# Altium integrated library Capacitors - Ceramic - 0201.IntLib: 1723 symbols (part 6 of 38)
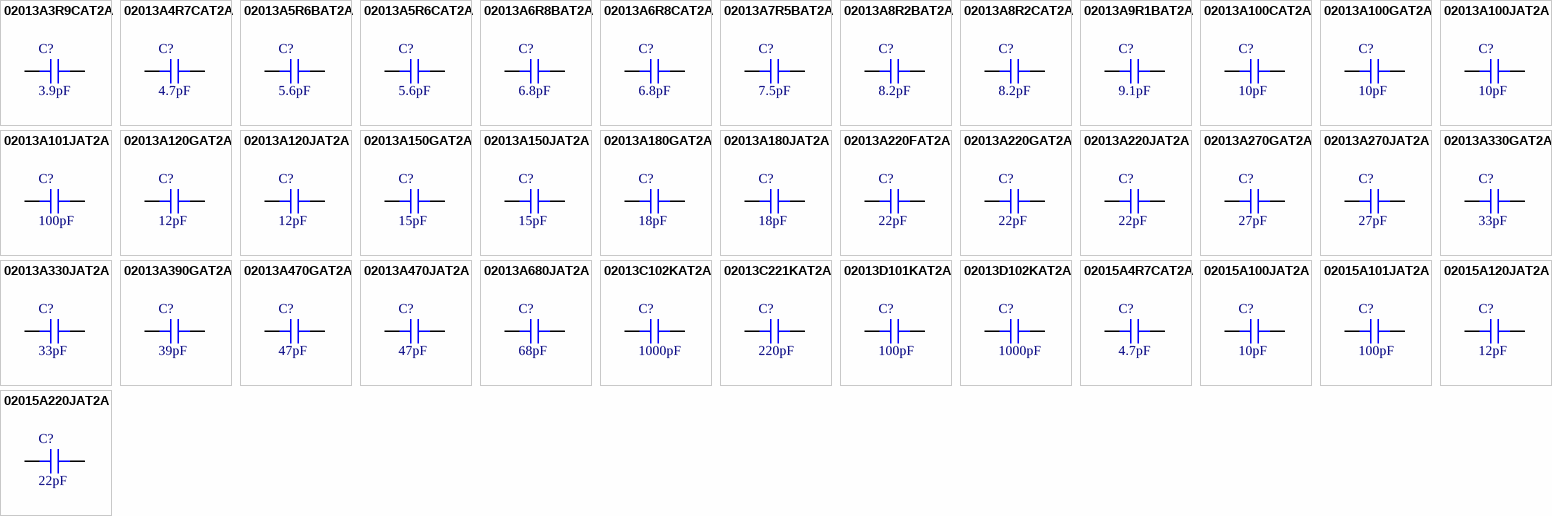
[diagram p48: symbols 02013A3R9CAT2A to 02015A220JAT2A]

## 02013A680JAT2A
designator C?, comment 68pF
CAP CER 68PF 25V C0G/NP0 0201; Part Number: 02013A680JAT2A; Manufacturer: AVX Corporation; Temperature Coefficient: C0G, NP0; Tolerance: ±5%; Value: 68pF; Applications: General Purpose; Capacitance: 68pF; ComponentLink1Description: Datasheet; ComponentLink1URL: http://datasheets.avx.com/C0GNP0-Dielectric.pdf; ComponentLink2Description: DigiKey Link; ComponentLink2URL: http://digikey.com/product-detail/en/avx-corporation/02013A680JAT2A/478-12999-1-ND/9948517; Device Package: 0201 (0603 Metric); LastUpdated: 9/2/2020 12:59:42 AM; Lifecycle Status: Active; Minimum Order: 1; Mounting Type: Surface Mount, MLCC; Operating Temperature: -55°C ~ 125°C; Package / Case: 0201 (0603 Metric); Packaging: TapeAndReel; PartId: 438; Part Status: Active; Price: 0.09; Series: -; Size / Dimension: 0.024" L x 0.012" W (0.60mm x 0.30mm); Supplier 1: DigiKey; Supplier Part Number 1: 478-12999-1-ND; Thickness (Max): 0.013" (0.33mm); Voltage - Rated: 25V
footprint CAP 0201_0603
pins: 1, 2

## 02013C102KAT2A
designator C?, comment 1000pF
CAP CER 1000PF 25V X7R 0201; Part Number: 02013C102KAT2A; Manufacturer: AVX Corporation; Tolerance: ±10%; Value: 1000pF; Applications: General Purpose; Capacitance: 1000pF; ComponentLink1Description: Datasheet; ComponentLink1URL: http://datasheets.avx.com/X7RDielectric.pdf; ComponentLink2Description: DigiKey Link; ComponentLink2URL: http://digikey.com/product-detail/en/avx-corporation/02013C102KAT2A/478-13000-1-ND/9948518; Device Package: 0201 (0603 Metric); LastUpdated: 9/2/2020 12:59:42 AM; Lifecycle Status: Active; Minimum Order: 1; Mounting Type: Surface Mount, MLCC; Operating Temperature: -55°C ~ 125°C; Package / Case: 0201 (0603 Metric); Packaging: TapeAndReel; PartId: 437; Part Status: Active; Price: 0.08; Series: -; Size / Dimension: 0.024" L x 0.012" W (0.60mm x 0.30mm); Supplier 1: DigiKey; Supplier Part Number 1: 478-13000-1-ND; Temperature Coefficient: X7R; Thickness (Max): 0.013" (0.33mm); Voltage - Rated: 25V
footprint CAP 0201_0603
pins: 1, 2

## 02013C221KAT2A
designator C?, comment 220pF
CAP CER 220PF 25V X7R 0201; Part Number: 02013C221KAT2A; Manufacturer: AVX Corporation; Tolerance: ±10%; Value: 220pF; Applications: General Purpose; Capacitance: 220pF; ComponentLink1Description: Datasheet; ComponentLink1URL: http://datasheets.avx.com/X7RDielectric.pdf; ComponentLink2Description: DigiKey Link; ComponentLink2URL: http://digikey.com/product-detail/en/avx-corporation/02013C221KAT2A/478-13001-1-ND/9948519; Device Package: 0201 (0603 Metric); LastUpdated: 9/2/2020 12:57:50 AM; Lifecycle Status: Active; Minimum Order: 1; Mounting Type: Surface Mount, MLCC; Operating Temperature: -55°C ~ 125°C; Package / Case: 0201 (0603 Metric); Packaging: TapeAndReel; PartId: 26146; Part Status: Active; Price: 0.08; Series: -; Supplier 1: DigiKey; Supplier Part Number 1: 478-13001-1-ND; Temperature Coefficient: X7R; Voltage - Rated: 25V
footprint CAP 0201_0603
pins: 1, 2

## 02013D101KAT2A
designator C?, comment 100pF
CAP CER 100PF 25V X5R 0201; Part Number: 02013D101KAT2A; Manufacturer: AVX Corporation; Tolerance: ±10%; Value: 100pF; Applications: General Purpose; Capacitance: 100pF; ComponentLink1Description: Datasheet; ComponentLink1URL: http://datasheets.avx.com/cx5r.pdf; ComponentLink2Description: DigiKey Link; ComponentLink2URL: http://digikey.com/product-detail/en/avx-corporation/02013D101KAT2A/478-10663-1-ND/7536534; Device Package: 0201 (0603 Metric); LastUpdated: 9/2/2020 12:59:59 AM; Lifecycle Status: Active; Minimum Order: 1; Mounting Type: Surface Mount, MLCC; Operating Temperature: -55°C ~ 85°C; Package / Case: 0201 (0603 Metric); Packaging: TapeAndReel; PartId: 238; Part Status: Active; Price: 0.08; Series: -; Size / Dimension: 0.024" L x 0.012" W (0.60mm x 0.30mm); Supplier 1: DigiKey; Supplier Part Number 1: 478-10663-1-ND; Temperature Coefficient: X5R; Thickness (Max): 0.013" (0.33mm); Voltage - Rated: 25V
footprint CAP 0201_0603
pins: 1, 2

## 02013D102KAT2A
designator C?, comment 1000pF
CAP CER 1000PF 25V X5R 0201; Part Number: 02013D102KAT2A; Manufacturer: AVX Corporation; Tolerance: ±10%; Value: 1000pF; Applications: General Purpose; Capacitance: 1000pF; ComponentLink1Description: Datasheet; ComponentLink1URL: http://datasheets.avx.com/cx5r.pdf; ComponentLink2Description: DigiKey Link; ComponentLink2URL: http://digikey.com/product-detail/en/avx-corporation/02013D102KAT2A/478-10770-1-ND/7536316; Device Package: 0201 (0603 Metric); LastUpdated: 9/2/2020 12:58:29 AM; Lifecycle Status: Active; Minimum Order: 1; Mounting Type: Surface Mount, MLCC; Operating Temperature: -55°C ~ 85°C; Package / Case: 0201 (0603 Metric); Packaging: TapeAndReel; PartId: 1286; Part Status: Active; Price: 0.01; Series: -; Size / Dimension: 0.024" L x 0.012" W (0.60mm x 0.30mm); Supplier 1: DigiKey; Supplier Part Number 1: 478-10770-1-ND; Temperature Coefficient: X5R; Thickness (Max): 0.013" (0.33mm); Voltage - Rated: 25V
footprint CAP 0201_0603
pins: 1, 2

## 02015A4R7CAT2A
designator C?, comment 4.7pF
CAP CER 4.7PF 50V C0G/NP0 0201; Part Number: 02015A4R7CAT2A; Manufacturer: AVX Corporation; Temperature Coefficient: C0G, NP0; Tolerance: ±0.25pF; Value: 4.7pF; Applications: General Purpose; Capacitance: 4.7pF; ComponentLink1Description: Datasheet; ComponentLink1URL: http://datasheets.avx.com/C0GNP0-Dielectric.pdf; ComponentLink2Description: DigiKey Link; ComponentLink2URL: http://digikey.com/product-detail/en/avx-corporation/02015A4R7CAT2A/478-11732-1-ND/8573368; Device Package: 0201 (0603 Metric); LastUpdated: 9/2/2020 12:57:50 AM; Lifecycle Status: Active; Minimum Order: 1; Mounting Type: Surface Mount, MLCC; Operating Temperature: -55°C ~ 125°C; Package / Case: 0201 (0603 Metric); Packaging: TapeAndReel; PartId: 26145; Part Status: Active; Price: 0.08; Series: -; Supplier 1: DigiKey; Supplier Part Number 1: 478-11732-1-ND; Voltage - Rated: 50V
footprint CAP 0201_0603
pins: 1, 2

## 02015A100JAT2A
designator C?, comment 10pF
CAP CER 10PF 50V C0G/NP0 0201; Part Number: 02015A100JAT2A; Manufacturer: AVX Corporation; Temperature Coefficient: C0G, NP0; Tolerance: ±5%; Value: 10pF; Applications: General Purpose; Capacitance: 10pF; ComponentLink1Description: Datasheet; ComponentLink1URL: http://datasheets.avx.com/C0GNP0-Dielectric.pdf; ComponentLink2Description: DigiKey Link; ComponentLink2URL: http://digikey.com/product-detail/en/avx-corporation/02015A100JAT2A/478-13003-1-ND/9948521; Device Package: 0201 (0603 Metric); LastUpdated: 9/2/2020 12:59:52 AM; Lifecycle Status: Active; Minimum Order: 1; Mounting Type: Surface Mount, MLCC; Operating Temperature: -55°C ~ 125°C; Package / Case: 0201 (0603 Metric); Packaging: TapeAndReel; PartId: 323; Part Status: Active; Price: 0.01; Series: -; Size / Dimension: 0.024" L x 0.012" W (0.60mm x 0.30mm); Supplier 1: DigiKey; Supplier Part Number 1: 478-13003-1-ND; Thickness (Max): 0.013" (0.33mm); Voltage - Rated: 50V
footprint CAP 0201_0603
pins: 1, 2

## 02015A101JAT2A
designator C?, comment 100pF
CAP CER 100PF 50V C0G/NP0 0201; Part Number: 02015A101JAT2A; Manufacturer: AVX Corporation; Temperature Coefficient: C0G, NP0; Tolerance: ±5%; Value: 100pF; Applications: General Purpose; Capacitance: 100pF; ComponentLink1Description: Datasheet; ComponentLink1URL: http://datasheets.avx.com/C0GNP0-Dielectric.pdf; ComponentLink2Description: DigiKey Link; ComponentLink2URL: http://digikey.com/product-detail/en/avx-corporation/02015A101JAT2A/478-13004-1-ND/9948522; Device Package: 0201 (0603 Metric); LastUpdated: 9/2/2020 12:58:26 AM; Lifecycle Status: Active; Minimum Order: 1; Mounting Type: Surface Mount, MLCC; Operating Temperature: -55°C ~ 125°C; Package / Case: 0201 (0603 Metric); Packaging: TapeAndReel; PartId: 1320; Part Status: Active; Price: 0.09; Series: -; Size / Dimension: 0.024" L x 0.012" W (0.60mm x 0.30mm); Supplier 1: DigiKey; Supplier Part Number 1: 478-13004-1-ND; Thickness (Max): 0.013" (0.33mm); Voltage - Rated: 50V
footprint CAP 0201_0603
pins: 1, 2

## 02015A120JAT2A
designator C?, comment 12pF
CAP CER 12PF 50V C0G/NP0 0201; Part Number: 02015A120JAT2A; Manufacturer: AVX Corporation; Temperature Coefficient: C0G, NP0; Tolerance: ±5%; Value: 12pF; Applications: General Purpose; Capacitance: 12pF; ComponentLink1Description: Datasheet; ComponentLink1URL: http://datasheets.avx.com/C0GNP0-Dielectric.pdf; ComponentLink2Description: DigiKey Link; ComponentLink2URL: http://digikey.com/product-detail/en/avx-corporation/02015A120JAT2A/478-13005-1-ND/9948523; Device Package: 0201 (0603 Metric); LastUpdated: 9/2/2020 12:59:52 AM; Lifecycle Status: Active; Minimum Order: 1; Mounting Type: Surface Mount, MLCC; Operating Temperature: -55°C ~ 125°C; Package / Case: 0201 (0603 Metric); Packaging: TapeAndReel; PartId: 324; Part Status: Active; Price: 0.01; Series: -; Size / Dimension: 0.024" L x 0.012" W (0.60mm x 0.30mm); Supplier 1: DigiKey; Supplier Part Number 1: 478-13005-1-ND; Thickness (Max): 0.013" (0.33mm); Voltage - Rated: 50V
footprint CAP 0201_0603
pins: 1, 2

## 02015A220JAT2A
designator C?, comment 22pF
CAP CER 22PF 50V C0G/NP0 0201; Part Number: 02015A220JAT2A; Manufacturer: AVX Corporation; Temperature Coefficient: C0G, NP0; Tolerance: ±5%; Value: 22pF; Applications: General Purpose; Capacitance: 22pF; ComponentLink1Description: Datasheet; ComponentLink1URL: http://datasheets.avx.com/C0GNP0-Dielectric.pdf; ComponentLink2Description: DigiKey Link; ComponentLink2URL: http://digikey.com/product-detail/en/avx-corporation/02015A220JAT2A/478-13006-1-ND/9948524; Device Package: 0201 (0603 Metric); LastUpdated: 9/2/2020 12:58:28 AM; Lifecycle Status: Active; Minimum Order: 1; Mounting Type: Surface Mount, MLCC; Operating Temperature: -55°C ~ 125°C; Package / Case: 0201 (0603 Metric); Packaging: TapeAndReel; PartId: 1292; Part Status: Active; Price: 0.09; Series: -; Size / Dimension: 0.024" L x 0.012" W (0.60mm x 0.30mm); Supplier 1: DigiKey; Supplier Part Number 1: 478-13006-1-ND; Thickness (Max): 0.013" (0.33mm); Voltage - Rated: 50V
footprint CAP 0201_0603
pins: 1, 2

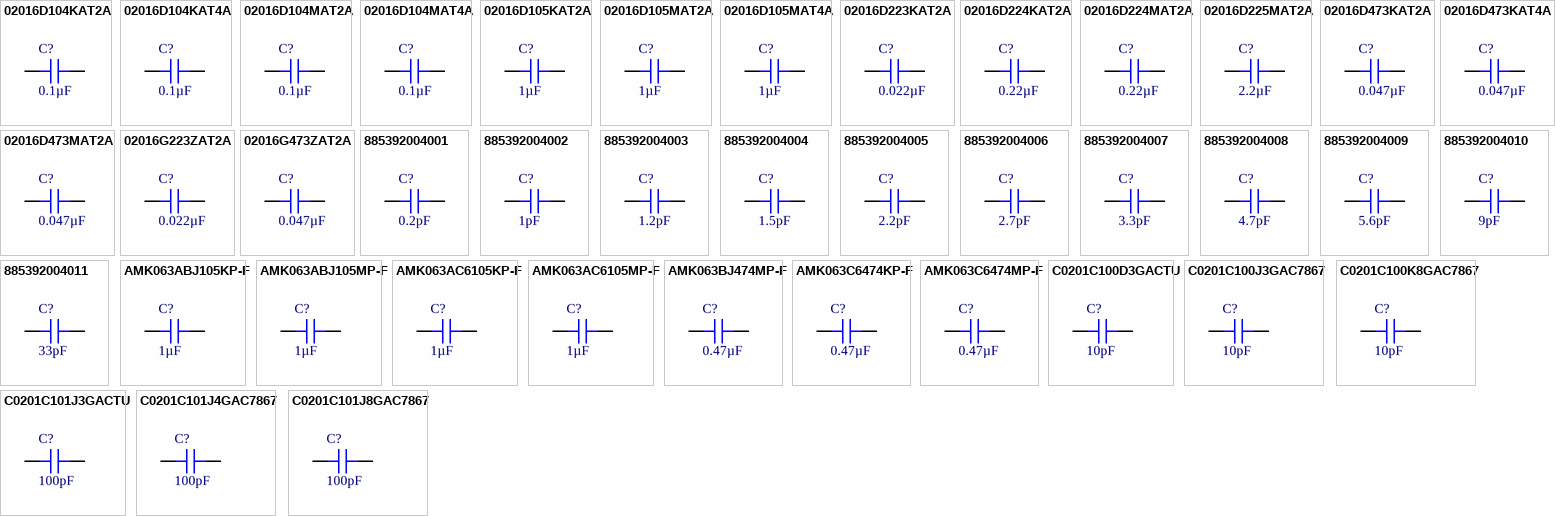
[diagram p6: symbols 02016D104KAT2A to C0201C101J8GAC7867]

## 02016D104KAT2A
designator C?, comment 0.1µF
CAP CER 0.1UF 6.3V X5R 0201; Part Number: 02016D104KAT2A; Manufacturer: AVX Corporation; Tolerance: ±10%; Value: 0.1µF; Applications: General Purpose; Capacitance: 0.1µF; ComponentLink1Description: Datasheet; ComponentLink1URL: http://datasheets.avx.com/cx5r.pdf; ComponentLink2Description: DigiKey Link; ComponentLink2URL: http://digikey.com/product-detail/en/avx-corporation/02016D104KAT2A/478-5266-1-ND/1950933; Device Package: 0201 (0603 Metric); LastUpdated: 9/2/2020 1:00:01 AM; Lifecycle Status: Active; Minimum Order: 1; Mounting Type: Surface Mount, MLCC; Operating Temperature: -55°C ~ 85°C; Package / Case: 0201 (0603 Metric); Packaging: CutTape; PartId: 214; Part Status: Active; Price: 0.10; Series: -; Size / Dimension: 0.024" L x 0.012" W (0.60mm x 0.30mm); Supplier 1: DigiKey; Supplier Part Number 1: 478-5266-1-ND; Temperature Coefficient: X5R; Thickness (Max): 0.013" (0.33mm); Voltage - Rated: 6.3V
footprint CAP 0201_0603
pins: 1, 2

## 02016D104KAT4A
designator C?, comment 0.1µF
CAP CER 0.1UF 6.3V X5R 0201; Part Number: 02016D104KAT4A; Manufacturer: AVX Corporation; Tolerance: ±10%; Value: 0.1µF; Applications: General Purpose; Capacitance: 0.1µF; ComponentLink1Description: Datasheet; ComponentLink1URL: http://datasheets.avx.com/cx5r.pdf; ComponentLink2Description: DigiKey Link; ComponentLink2URL: http://digikey.com/product-detail/en/avx-corporation/02016D104KAT4A/478-12444-1-ND/9749296; Device Package: 0201 (0603 Metric); LastUpdated: 9/2/2020 12:59:51 AM; Lifecycle Status: Active; Minimum Order: 1; Mounting Type: Surface Mount, MLCC; Operating Temperature: -55°C ~ 85°C; Package / Case: 0201 (0603 Metric); Packaging: CutTape; PartId: 325; Part Status: Active; Price: 0.10; Series: -; Size / Dimension: 0.024" L x 0.012" W (0.60mm x 0.30mm); Supplier 1: DigiKey; Supplier Part Number 1: 478-12444-1-ND; Temperature Coefficient: X5R; Thickness (Max): 0.013" (0.33mm); Voltage - Rated: 6.3V
footprint CAP 0201_0603
pins: 1, 2

## 02016D104MAT2A
designator C?, comment 0.1µF
CAP CER 0.1UF 6.3V X5R 0201; Part Number: 02016D104MAT2A; Manufacturer: AVX Corporation; Tolerance: ±20%; Value: 0.1µF; Applications: General Purpose; Capacitance: 0.1µF; ComponentLink1Description: Datasheet; ComponentLink1URL: http://datasheets.avx.com/cx5r.pdf; ComponentLink2Description: DigiKey Link; ComponentLink2URL: http://digikey.com/product-detail/en/avx-corporation/02016D104MAT2A/478-8049-1-ND/3900665; Device Package: 0201 (0603 Metric); LastUpdated: 9/2/2020 12:58:50 AM; Lifecycle Status: Active; Minimum Order: 1; Mounting Type: Surface Mount, MLCC; Operating Temperature: -55°C ~ 85°C; Package / Case: 0201 (0603 Metric); Packaging: TapeAndReel; PartId: 1044; Part Status: Active; Price: 0.01; Series: -; Size / Dimension: 0.024" L x 0.012" W (0.60mm x 0.30mm); Supplier 1: DigiKey; Supplier Part Number 1: 478-8049-1-ND; Temperature Coefficient: X5R; Thickness (Max): 0.013" (0.33mm); Voltage - Rated: 6.3V
footprint CAP 0201_0603
pins: 1, 2

## 02016D104MAT4A
designator C?, comment 0.1µF
CAP CER 0.1UF 6.3V X5R 0201; Part Number: 02016D104MAT4A; Manufacturer: AVX Corporation; Tolerance: ±20%; Value: 0.1µF; Applications: General Purpose; Capacitance: 0.1µF; ComponentLink1Description: Datasheet; ComponentLink1URL: http://datasheets.avx.com/cx5r.pdf; ComponentLink2Description: DigiKey Link; ComponentLink2URL: http://digikey.com/product-detail/en/avx-corporation/02016D104MAT4A/478-12445-1-ND/9749297; Device Package: 0201 (0603 Metric); LastUpdated: 9/2/2020 1:00:09 AM; Lifecycle Status: Active; Minimum Order: 1; Mounting Type: Surface Mount, MLCC; Operating Temperature: -55°C ~ 85°C; Package / Case: 0201 (0603 Metric); Packaging: TapeAndReel; PartId: 119; Part Status: Active; Price: 0.01; Series: -; Size / Dimension: 0.024" L x 0.012" W (0.60mm x 0.30mm); Supplier 1: DigiKey; Supplier Part Number 1: 478-12445-1-ND; Temperature Coefficient: X5R; Thickness (Max): 0.013" (0.33mm); Voltage - Rated: 6.3V
footprint CAP 0201_0603
pins: 1, 2

## 02016D105KAT2A
designator C?, comment 1µF
CAP CER 1UF 6.3V X5R 0201; Part Number: 02016D105KAT2A; Manufacturer: AVX Corporation; Tolerance: ±10%; Value: 1µF; Applications: General Purpose; Capacitance: 1µF; ComponentLink1Description: Datasheet; ComponentLink1URL: http://datasheets.avx.com/cx5r.pdf; ComponentLink2Description: DigiKey Link; ComponentLink2URL: http://digikey.com/product-detail/en/avx-corporation/02016D105KAT2A/478-10772-1-ND/7536447; Device Package: 0201 (0603 Metric); LastUpdated: 9/2/2020 12:58:45 AM; Lifecycle Status: Active; Minimum Order: 1; Mounting Type: Surface Mount, MLCC; Operating Temperature: -55°C ~ 85°C; Package / Case: 0201 (0603 Metric); Packaging: TapeAndReel; PartId: 1100; Part Status: Active; Price: 0.05; Series: -; Size / Dimension: 0.024" L x 0.012" W (0.60mm x 0.30mm); Supplier 1: DigiKey; Supplier Part Number 1: 478-10772-1-ND; Temperature Coefficient: X5R; Thickness (Max): 0.016" (0.40mm); Voltage - Rated: 6.3V
footprint CAP 0201_0603
pins: 1, 2

## 02016D105MAT2A
designator C?, comment 1µF
CAP CER 1UF 6.3V X5R 0201; Part Number: 02016D105MAT2A; Manufacturer: AVX Corporation; Tolerance: ±20%; Value: 1µF; Applications: General Purpose; Capacitance: 1µF; ComponentLink1Description: Datasheet; ComponentLink1URL: http://datasheets.avx.com/cx5r.pdf; ComponentLink2Description: DigiKey Link; ComponentLink2URL: http://digikey.com/product-detail/en/avx-corporation/02016D105MAT2A/478-7862-1-ND/3881485; Device Package: 0201 (0603 Metric); LastUpdated: 9/2/2020 12:57:58 AM; Lifecycle Status: Active; Minimum Order: 1; Mounting Type: Surface Mount, MLCC; Operating Temperature: -55°C ~ 85°C; Package / Case: 0201 (0603 Metric); Packaging: TapeAndReel; PartId: 1629; Part Status: Active; Price: 0.04; Series: -; Size / Dimension: 0.024" L x 0.012" W (0.60mm x 0.30mm); Supplier 1: DigiKey; Supplier Part Number 1: 478-7862-1-ND; Temperature Coefficient: X5R; Thickness (Max): 0.013" (0.33mm); Voltage - Rated: 6.3V
footprint CAP 0201_0603
pins: 1, 2

## 02016D105MAT4A
designator C?, comment 1µF
CAP CER 1UF 6.3V X5R 0201 13"; Part Number: 02016D105MAT4A; Manufacturer: AVX Corporation; Tolerance: ±20%; Value: 1µF; Applications: General Purpose; Capacitance: 1µF; ComponentLink1Description: Datasheet; ComponentLink1URL: http://datasheets.avx.com/cx5r.pdf; ComponentLink2Description: DigiKey Link; ComponentLink2URL: http://digikey.com/product-detail/en/avx-corporation/02016D105MAT4A/478-12192-1-ND/9521998; Device Package: 0201 (0603 Metric); LastUpdated: 9/2/2020 12:58:29 AM; Lifecycle Status: Active; Minimum Order: 1; Mounting Type: Surface Mount, MLCC; Operating Temperature: -55°C ~ 85°C; Package / Case: 0201 (0603 Metric); Packaging: TapeAndReel; PartId: 1284; Part Status: Active; Price: 0.04; Series: -; Size / Dimension: 0.024" L x 0.012" W (0.60mm x 0.30mm); Supplier 1: DigiKey; Supplier Part Number 1: 478-12192-1-ND; Temperature Coefficient: X5R; Thickness (Max): 0.016" (0.40mm); Voltage - Rated: 6.3V
footprint CAP 0201_0603
pins: 1, 2

## 02016D223KAT2A
designator C?, comment 0.022µF
CAP CER 0.022UF 6.3V X5R 0201; Part Number: 02016D223KAT2A; Manufacturer: AVX Corporation; Tolerance: ±10%; Value: 0.022µF; Applications: General Purpose; Capacitance: 0.022µF; ComponentLink1Description: Datasheet; ComponentLink1URL: http://datasheets.avx.com/cx5r.pdf; ComponentLink2Description: DigiKey Link; ComponentLink2URL: http://digikey.com/product-detail/en/avx-corporation/02016D223KAT2A/478-10773-1-ND/7536317; Device Package: 0201 (0603 Metric); LastUpdated: 9/2/2020 12:57:54 AM; Lifecycle Status: Active; Minimum Order: 1; Mounting Type: Surface Mount, MLCC; Operating Temperature: -55°C ~ 85°C; Package / Case: 0201 (0603 Metric); Packaging: TapeAndReel; PartId: 1674; Part Status: Active; Price: 0.01; Series: -; Size / Dimension: 0.024" L x 0.012" W (0.60mm x 0.30mm); Supplier 1: DigiKey; Supplier Part Number 1: 478-10773-1-ND; Temperature Coefficient: X5R; Thickness (Max): 0.013" (0.33mm); Voltage - Rated: 6.3V
footprint CAP 0201_0603
pins: 1, 2

## 02016D224KAT2A
designator C?, comment 0.22µF
CAP CER 0.22UF 6.3V X5R 0201; Part Number: 02016D224KAT2A; Manufacturer: AVX Corporation; Tolerance: ±10%; Value: 0.22µF; Applications: General Purpose; Capacitance: 0.22µF; ComponentLink1Description: Datasheet; ComponentLink1URL: http://datasheets.avx.com/cx5r.pdf; ComponentLink2Description: DigiKey Link; ComponentLink2URL: http://digikey.com/product-detail/en/avx-corporation/02016D224KAT2A/478-12499-1-ND/9749552; Device Package: 0201 (0603 Metric); LastUpdated: 9/2/2020 12:58:43 AM; Lifecycle Status: Active; Minimum Order: 1; Mounting Type: Surface Mount, MLCC; Operating Temperature: -55°C ~ 85°C; Package / Case: 0201 (0603 Metric); Packaging: CutTape; PartId: 1129; Part Status: Active; Price: 0.10; Series: -; Size / Dimension: 0.024" L x 0.012" W (0.60mm x 0.30mm); Supplier 1: DigiKey; Supplier Part Number 1: 478-12499-1-ND; Temperature Coefficient: X5R; Thickness (Max): 0.013" (0.33mm); Voltage - Rated: 6.3V
footprint CAP 0201_0603
pins: 1, 2

## 02016D224MAT2A
designator C?, comment 0.22µF
CAP CER 0.22UF 6.3V X5R 0201; Part Number: 02016D224MAT2A; Manufacturer: AVX Corporation; Tolerance: ±20%; Value: 0.22µF; Applications: General Purpose; Capacitance: 0.22µF; ComponentLink1Description: Datasheet; ComponentLink1URL: http://datasheets.avx.com/cx5r.pdf; ComponentLink2Description: DigiKey Link; ComponentLink2URL: http://digikey.com/product-detail/en/avx-corporation/02016D224MAT2A/478-12500-1-ND/9749553; Device Package: 0201 (0603 Metric); LastUpdated: 9/2/2020 12:58:43 AM; Lifecycle Status: Active; Minimum Order: 1; Mounting Type: Surface Mount, MLCC; Operating Temperature: -55°C ~ 85°C; Package / Case: 0201 (0603 Metric); Packaging: TapeAndReel; PartId: 1130; Part Status: Active; Price: 0.01; Series: -; Size / Dimension: 0.024" L x 0.012" W (0.60mm x 0.30mm); Supplier 1: DigiKey; Supplier Part Number 1: 478-12500-1-ND; Temperature Coefficient: X5R; Thickness (Max): 0.013" (0.33mm); Voltage - Rated: 6.3V
footprint CAP 0201_0603
pins: 1, 2

## 02016D225MAT2A
designator C?, comment 2.2µF
CAP CER 2.2UF 6.3V X5R 0201; Part Number: 02016D225MAT2A; Manufacturer: AVX Corporation; Tolerance: ±20%; Value: 2.2µF; Applications: General Purpose; Capacitance: 2.2µF; ComponentLink1Description: Datasheet; ComponentLink1URL: http://datasheets.avx.com/cx5r.pdf; ComponentLink2Description: DigiKey Link; ComponentLink2URL: http://digikey.com/product-detail/en/avx-corporation/02016D225MAT2A/478-10042-1-ND/6564265; Device Package: 0201 (0603 Metric); LastUpdated: 9/2/2020 12:58:24 AM; Lifecycle Status: Active; Minimum Order: 1; Mounting Type: Surface Mount, MLCC; Operating Temperature: -55°C ~ 85°C; Package / Case: 0201 (0603 Metric); Packaging: TapeAndReel; PartId: 1342; Part Status: Active; Price: 0.14; Series: -; Size / Dimension: 0.024" L x 0.012" W (0.60mm x 0.30mm); Supplier 1: DigiKey; Supplier Part Number 1: 478-10042-1-ND; Temperature Coefficient: X5R; Thickness (Max): 0.016" (0.40mm); Voltage - Rated: 6.3V
footprint CAP 0201_0603
pins: 1, 2

## 02016D473KAT2A
designator C?, comment 0.047µF
CAP CER 0.047UF 6.3V X5R 0201; Part Number: 02016D473KAT2A; Manufacturer: AVX Corporation; Tolerance: ±10%; Value: 0.047µF; Applications: General Purpose; Capacitance: 0.047µF; ComponentLink1Description: Datasheet; ComponentLink1URL: http://datasheets.avx.com/cx5r.pdf; ComponentLink2Description: DigiKey Link; ComponentLink2URL: http://digikey.com/product-detail/en/avx-corporation/02016D473KAT2A/478-10774-1-ND/7536318; Device Package: 0201 (0603 Metric); LastUpdated: 9/2/2020 12:58:29 AM; Lifecycle Status: Active; Minimum Order: 1; Mounting Type: Surface Mount, MLCC; Operating Temperature: -55°C ~ 85°C; Package / Case: 0201 (0603 Metric); Packaging: TapeAndReel; PartId: 1287; Part Status: Active; Price: 0.01; Series: -; Size / Dimension: 0.024" L x 0.012" W (0.60mm x 0.30mm); Supplier 1: DigiKey; Supplier Part Number 1: 478-10774-1-ND; Temperature Coefficient: X5R; Thickness (Max): 0.013" (0.33mm); Voltage - Rated: 6.3V
footprint CAP 0201_0603
pins: 1, 2

## 02016D473KAT4A
designator C?, comment 0.047µF
CAP CER 0.047UF 6.3V X5R 0201; Part Number: 02016D473KAT4A; Manufacturer: AVX Corporation; Tolerance: ±10%; Value: 0.047µF; Applications: General Purpose; Capacitance: 0.047µF; ComponentLink1Description: Datasheet; ComponentLink1URL: http://datasheets.avx.com/cx5r.pdf; ComponentLink2Description: DigiKey Link; ComponentLink2URL: http://digikey.com/product-detail/en/avx-corporation/02016D473KAT4A/478-12447-1-ND/9749299; Device Package: 0201 (0603 Metric); LastUpdated: 9/2/2020 12:58:43 AM; Lifecycle Status: Active; Minimum Order: 1; Mounting Type: Surface Mount, MLCC; Operating Temperature: -55°C ~ 85°C; Package / Case: 0201 (0603 Metric); Packaging: TapeAndReel; PartId: 1131; Part Status: Active; Price: 0.01; Series: -; Size / Dimension: 0.024" L x 0.012" W (0.60mm x 0.30mm); Supplier 1: DigiKey; Supplier Part Number 1: 478-12447-1-ND; Temperature Coefficient: X5R; Thickness (Max): 0.013" (0.33mm); Voltage - Rated: 6.3V
footprint CAP 0201_0603
pins: 1, 2

## 02016D473MAT2A
designator C?, comment 0.047µF
CAP CER 0.047UF 6.3V X5R 0201; Part Number: 02016D473MAT2A; Manufacturer: AVX Corporation; Tolerance: ±20%; Value: 0.047µF; Applications: General Purpose; Capacitance: 0.047µF; ComponentLink1Description: Datasheet; ComponentLink1URL: http://datasheets.avx.com/cx5r.pdf; ComponentLink2Description: DigiKey Link; ComponentLink2URL: http://digikey.com/product-detail/en/avx-corporation/02016D473MAT2A/478-12501-1-ND/9749554; Device Package: 0201 (0603 Metric); LastUpdated: 9/2/2020 12:58:41 AM; Lifecycle Status: Active; Minimum Order: 1; Mounting Type: Surface Mount, MLCC; Operating Temperature: -55°C ~ 85°C; Package / Case: 0201 (0603 Metric); Packaging: TapeAndReel; PartId: 1146; Part Status: Active; Price: 0.01; Series: -; Size / Dimension: 0.024" L x 0.012" W (0.60mm x 0.30mm); Supplier 1: DigiKey; Supplier Part Number 1: 478-12501-1-ND; Temperature Coefficient: X5R; Thickness (Max): 0.013" (0.33mm); Voltage - Rated: 6.3V
footprint CAP 0201_0603
pins: 1, 2

## 02016G223ZAT2A
designator C?, comment 0.022µF
CAP CER 0.022UF 6.3V Y5V 0201; Part Number: 02016G223ZAT2A; Manufacturer: AVX Corporation; Temperature Coefficient: Y5V (F); Tolerance: -20%, +80%; Value: 0.022µF; Applications: General Purpose; Capacitance: 0.022µF; ComponentLink1Description: Datasheet; ComponentLink1URL: http://datasheets.avx.com/Y5V.pdf; ComponentLink2Description: DigiKey Link; ComponentLink2URL: http://digikey.com/product-detail/en/avx-corporation/02016G223ZAT2A/478-1054-1-ND/564086; Device Package: 0201 (0603 Metric); LastUpdated: 9/2/2020 12:58:01 AM; Lifecycle Status: Active; Minimum Order: 1; Mounting Type: Surface Mount, MLCC; Operating Temperature: -30°C ~ 85°C; Package / Case: 0201 (0603 Metric); Packaging: TapeAndReel; PartId: 1591; Part Status: Active; Price: 0.10; Series: -; Size / Dimension: 0.024" L x 0.012" W (0.60mm x 0.30mm); Supplier 1: DigiKey; Supplier Part Number 1: 478-1054-1-ND; Thickness (Max): 0.013" (0.33mm); Voltage - Rated: 6.3V
footprint CAP 0201_0603
pins: 1, 2

## 02016G473ZAT2A
designator C?, comment 0.047µF
CAP CER 0.047UF 6.3V Y5V 0201; Part Number: 02016G473ZAT2A; Manufacturer: AVX Corporation; Temperature Coefficient: Y5V (F); Tolerance: -20%, +80%; Value: 0.047µF; Applications: General Purpose; Capacitance: 0.047µF; ComponentLink1Description: Datasheet; ComponentLink1URL: http://datasheets.avx.com/Y5V.pdf; ComponentLink2Description: DigiKey Link; ComponentLink2URL: http://digikey.com/product-detail/en/avx-corporation/02016G473ZAT2A/478-1056-1-ND/564088; Device Package: 0201 (0603 Metric); LastUpdated: 9/2/2020 1:00:16 AM; Lifecycle Status: Active; Minimum Order: 1; Mounting Type: Surface Mount, MLCC; Operating Temperature: -30°C ~ 85°C; Package / Case: 0201 (0603 Metric); Packaging: TapeAndReel; PartId: 32; Part Status: Active; Price: 0.01; Series: -; Size / Dimension: 0.024" L x 0.012" W (0.60mm x 0.30mm); Supplier 1: DigiKey; Supplier Part Number 1: 478-1056-1-ND; Thickness (Max): 0.013" (0.33mm); Voltage - Rated: 6.3V
footprint CAP 0201_0603
pins: 1, 2

## 885392004001
designator C?, comment 0.2pF
CAP CER 0.2PF 25V C0G/NP0 0201; Part Number: 885392004001; Manufacturer: Würth Elektronik; Temperature Coefficient: C0G, NP0; Tolerance: ±0.05pF; Value: 0.2pF; Applications: RF, Microwave, High Frequency; Capacitance: 0.2pF; ComponentLink2Description: DigiKey Link; ComponentLink2URL: http://digikey.com/product-detail/en/w-rth-elektronik/885392004001/732-13215-1-ND/9816426; Device Package: 0201 (0603 Metric); LastUpdated: 9/2/2020 12:57:51 AM; Lifecycle Status: Active; Minimum Order: 1; Mounting Type: Surface Mount, MLCC; Operating Temperature: -55°C ~ 125°C; Package / Case: 0201 (0603 Metric); Packaging: TapeAndReel; PartId: 26147; Part Status: Active; Price: 0.08; Series: WCAP-CSRF; Supplier 1: DigiKey; Supplier Part Number 1: 732-13215-1-ND; Voltage - Rated: 25V
footprint CAP 0201_0603
pins: 1, 2

## 885392004002
designator C?, comment 1pF
CAP CER 1PF 25V C0G/NP0 0201; Part Number: 885392004002; Manufacturer: Würth Elektronik; Temperature Coefficient: C0G, NP0; Tolerance: ±0.1pF; Value: 1pF; Applications: RF, Microwave, High Frequency; Capacitance: 1pF; ComponentLink2Description: DigiKey Link; ComponentLink2URL: http://digikey.com/product-detail/en/w-rth-elektronik/885392004002/732-13216-1-ND/9816427; Device Package: 0201 (0603 Metric); LastUpdated: 9/2/2020 1:00:10 AM; Lifecycle Status: Active; Minimum Order: 1; Mounting Type: Surface Mount, MLCC; Operating Temperature: -55°C ~ 125°C; Package / Case: 0201 (0603 Metric); Packaging: TapeAndReel; PartId: 112; Part Status: Active; Price: 0.03; Series: WCAP-CSRF; Size / Dimension: 0.024" L x 0.012" W (0.60mm x 0.30mm); Supplier 1: DigiKey; Supplier Part Number 1: 732-13216-1-ND; Thickness (Max): 0.013" (0.33mm); Voltage - Rated: 25V
footprint CAP 0201_0603
pins: 1, 2

## 885392004003
designator C?, comment 1.2pF
CAP CER 1.2PF 25V C0G/NP0 0201; Part Number: 885392004003; Manufacturer: Würth Elektronik; Temperature Coefficient: C0G, NP0; Tolerance: ±0.1pF; Value: 1.2pF; Applications: RF, Microwave, High Frequency; Capacitance: 1.2pF; ComponentLink2Description: DigiKey Link; ComponentLink2URL: http://digikey.com/product-detail/en/w-rth-elektronik/885392004003/732-13217-1-ND/9816428; Device Package: 0201 (0603 Metric); LastUpdated: 9/2/2020 1:00:10 AM; Lifecycle Status: Active; Minimum Order: 1; Mounting Type: Surface Mount, MLCC; Operating Temperature: -55°C ~ 125°C; Package / Case: 0201 (0603 Metric); Packaging: TapeAndReel; PartId: 111; Part Status: Active; Price: 0.03; Series: WCAP-CSRF; Size / Dimension: 0.024" L x 0.012" W (0.60mm x 0.30mm); Supplier 1: DigiKey; Supplier Part Number 1: 732-13217-1-ND; Thickness (Max): 0.013" (0.33mm); Voltage - Rated: 25V
footprint CAP 0201_0603
pins: 1, 2

## 885392004004
designator C?, comment 1.5pF
CAP CER 1.5PF 25V C0G/NP0 0201; Part Number: 885392004004; Manufacturer: Würth Elektronik; Temperature Coefficient: C0G, NP0; Tolerance: ±0.1pF; Value: 1.5pF; Applications: RF, Microwave, High Frequency; Capacitance: 1.5pF; ComponentLink2Description: DigiKey Link; ComponentLink2URL: http://digikey.com/product-detail/en/w-rth-elektronik/885392004004/732-13218-1-ND/9816429; Device Package: 0201 (0603 Metric); LastUpdated: 9/2/2020 1:00:10 AM; Lifecycle Status: Active; Minimum Order: 1; Mounting Type: Surface Mount, MLCC; Operating Temperature: -55°C ~ 125°C; Package / Case: 0201 (0603 Metric); Packaging: TapeAndReel; PartId: 113; Part Status: Active; Price: 0.03; Series: WCAP-CSRF; Size / Dimension: 0.024" L x 0.012" W (0.60mm x 0.30mm); Supplier 1: DigiKey; Supplier Part Number 1: 732-13218-1-ND; Thickness (Max): 0.013" (0.33mm); Voltage - Rated: 25V
footprint CAP 0201_0603
pins: 1, 2

## 885392004005
designator C?, comment 2.2pF
CAP CER 2.2PF 25V C0G/NP0 0201; Part Number: 885392004005; Manufacturer: Würth Elektronik; Temperature Coefficient: C0G, NP0; Tolerance: ±0.1pF; Value: 2.2pF; Applications: RF, Microwave, High Frequency; Capacitance: 2.2pF; ComponentLink2Description: DigiKey Link; ComponentLink2URL: http://digikey.com/product-detail/en/w-rth-elektronik/885392004005/732-13219-1-ND/9816430; Device Package: 0201 (0603 Metric); LastUpdated: 9/2/2020 1:00:10 AM; Lifecycle Status: Active; Minimum Order: 1; Mounting Type: Surface Mount, MLCC; Operating Temperature: -55°C ~ 125°C; Package / Case: 0201 (0603 Metric); Packaging: TapeAndReel; PartId: 114; Part Status: Active; Price: 0.03; Series: WCAP-CSRF; Size / Dimension: 0.024" L x 0.012" W (0.60mm x 0.30mm); Supplier 1: DigiKey; Supplier Part Number 1: 732-13219-1-ND; Thickness (Max): 0.013" (0.33mm); Voltage - Rated: 25V
footprint CAP 0201_0603
pins: 1, 2

## 885392004006
designator C?, comment 2.7pF
CAP CER 2.7PF 25V C0G/NP0 0201; Part Number: 885392004006; Manufacturer: Würth Elektronik; Temperature Coefficient: C0G, NP0; Tolerance: ±0.1pF; Value: 2.7pF; Applications: RF, Microwave, High Frequency; Capacitance: 2.7pF; ComponentLink2Description: DigiKey Link; ComponentLink2URL: http://digikey.com/product-detail/en/w-rth-elektronik/885392004006/732-13220-1-ND/9816431; Device Package: 0201 (0603 Metric); LastUpdated: 9/2/2020 1:00:10 AM; Lifecycle Status: Active; Minimum Order: 1; Mounting Type: Surface Mount, MLCC; Operating Temperature: -55°C ~ 125°C; Package / Case: 0201 (0603 Metric); Packaging: TapeAndReel; PartId: 115; Part Status: Active; Price: 0.03; Series: WCAP-CSRF; Size / Dimension: 0.024" L x 0.012" W (0.60mm x 0.30mm); Supplier 1: DigiKey; Supplier Part Number 1: 732-13220-1-ND; Thickness (Max): 0.013" (0.33mm); Voltage - Rated: 25V
footprint CAP 0201_0603
pins: 1, 2

## 885392004007
designator C?, comment 3.3pF
CAP CER 3.3PF 25V C0G/NP0 0201; Part Number: 885392004007; Manufacturer: Würth Elektronik; Temperature Coefficient: C0G, NP0; Tolerance: ±0.1pF; Value: 3.3pF; Applications: RF, Microwave, High Frequency; Capacitance: 3.3pF; ComponentLink2Description: DigiKey Link; ComponentLink2URL: http://digikey.com/product-detail/en/w-rth-elektronik/885392004007/732-13221-1-ND/9816432; Device Package: 0201 (0603 Metric); LastUpdated: 9/2/2020 1:00:10 AM; Lifecycle Status: Active; Minimum Order: 1; Mounting Type: Surface Mount, MLCC; Operating Temperature: -55°C ~ 125°C; Package / Case: 0201 (0603 Metric); Packaging: TapeAndReel; PartId: 116; Part Status: Active; Price: 0.03; Series: WCAP-CSRF; Size / Dimension: 0.024" L x 0.012" W (0.60mm x 0.30mm); Supplier 1: DigiKey; Supplier Part Number 1: 732-13221-1-ND; Thickness (Max): 0.013" (0.33mm); Voltage - Rated: 25V
footprint CAP 0201_0603
pins: 1, 2

## 885392004008
designator C?, comment 4.7pF
CAP CER 4.7PF 25V C0G/NP0 0201; Part Number: 885392004008; Manufacturer: Würth Elektronik; Temperature Coefficient: C0G, NP0; Tolerance: ±0.25pF; Value: 4.7pF; Applications: RF, Microwave, High Frequency; Capacitance: 4.7pF; ComponentLink2Description: DigiKey Link; ComponentLink2URL: http://digikey.com/product-detail/en/w-rth-elektronik/885392004008/732-13222-1-ND/9816433; Device Package: 0201 (0603 Metric); LastUpdated: 9/2/2020 1:00:10 AM; Lifecycle Status: Active; Minimum Order: 1; Mounting Type: Surface Mount, MLCC; Operating Temperature: -55°C ~ 125°C; Package / Case: 0201 (0603 Metric); Packaging: TapeAndReel; PartId: 107; Part Status: Active; Price: 0.02; Series: WCAP-CSRF; Size / Dimension: 0.024" L x 0.012" W (0.60mm x 0.30mm); Supplier 1: DigiKey; Supplier Part Number 1: 732-13222-1-ND; Thickness (Max): 0.013" (0.33mm); Voltage - Rated: 25V
footprint CAP 0201_0603
pins: 1, 2

## 885392004009
designator C?, comment 5.6pF
CAP CER 5.6PF 25V C0G/NP0 0201; Part Number: 885392004009; Manufacturer: Würth Elektronik; Temperature Coefficient: C0G, NP0; Tolerance: ±0.25pF; Value: 5.6pF; Applications: RF, Microwave, High Frequency; Capacitance: 5.6pF; ComponentLink2Description: DigiKey Link; ComponentLink2URL: http://digikey.com/product-detail/en/w-rth-elektronik/885392004009/732-13223-1-ND/9816434; Device Package: 0201 (0603 Metric); LastUpdated: 9/2/2020 1:00:18 AM; Lifecycle Status: Active; Minimum Order: 1; Mounting Type: Surface Mount, MLCC; Operating Temperature: -55°C ~ 125°C; Package / Case: 0201 (0603 Metric); Packaging: TapeAndReel; PartId: 14; Part Status: Active; Price: 0.04; Series: WCAP-CSRF; Size / Dimension: 0.024" L x 0.012" W (0.60mm x 0.30mm); Supplier 1: DigiKey; Supplier Part Number 1: 732-13223-1-ND; Thickness (Max): 0.013" (0.33mm); Voltage - Rated: 25V
footprint CAP 0201_0603
pins: 1, 2

## 885392004010
designator C?, comment 9pF
CAP CER 9PF 25V C0G/NP0 0201; Part Number: 885392004010; Manufacturer: Würth Elektronik; Temperature Coefficient: C0G, NP0; Tolerance: ±0.5pF; Value: 9pF; Applications: RF, Microwave, High Frequency; Capacitance: 9pF; ComponentLink2Description: DigiKey Link; ComponentLink2URL: http://digikey.com/product-detail/en/w-rth-elektronik/885392004010/732-13224-1-ND/9816435; Device Package: 0201 (0603 Metric); LastUpdated: 9/2/2020 1:00:18 AM; Lifecycle Status: Active; Minimum Order: 1; Mounting Type: Surface Mount, MLCC; Operating Temperature: -55°C ~ 125°C; Package / Case: 0201 (0603 Metric); Packaging: TapeAndReel; PartId: 15; Part Status: Active; Price: 0.04; Series: WCAP-CSRF; Size / Dimension: 0.024" L x 0.012" W (0.60mm x 0.30mm); Supplier 1: DigiKey; Supplier Part Number 1: 732-13224-1-ND; Thickness (Max): 0.013" (0.33mm); Voltage - Rated: 25V
footprint CAP 0201_0603
pins: 1, 2

## 885392004011
designator C?, comment 33pF
CAP CER 33PF 25V C0G/NP0 0201; Part Number: 885392004011; Manufacturer: Würth Elektronik; Temperature Coefficient: C0G, NP0; Tolerance: ±5%; Value: 33pF; Applications: RF, Microwave, High Frequency; Capacitance: 33pF; ComponentLink2Description: DigiKey Link; ComponentLink2URL: http://digikey.com/product-detail/en/w-rth-elektronik/885392004011/732-13225-1-ND/9816436; Device Package: 0201 (0603 Metric); LastUpdated: 9/2/2020 12:59:38 AM; Lifecycle Status: Active; Minimum Order: 1; Mounting Type: Surface Mount, MLCC; Operating Temperature: -55°C ~ 125°C; Package / Case: 0201 (0603 Metric); Packaging: TapeAndReel; PartId: 486; Part Status: Active; Price: 0.08; Series: WCAP-CSRF; Size / Dimension: 0.024" L x 0.012" W (0.60mm x 0.30mm); Supplier 1: DigiKey; Supplier Part Number 1: 732-13225-1-ND; Thickness (Max): 0.013" (0.33mm); Voltage - Rated: 25V
footprint CAP 0201_0603
pins: 1, 2

## AMK063ABJ105KP-F
designator C?, comment 1µF
CAP CER 1UF 4V X5R 0201; Part Number: AMK063ABJ105KP-F; Manufacturer: Taiyo Yuden; Tolerance: ±10%; Value: 1µF; Applications: SMPS Filtering; Capacitance: 1µF; ComponentLink1Description: Datasheet; ComponentLink1URL: http://www.yuden.co.jp/productdata/catalog/mlcc06_e.pdf; ComponentLink2Description: DigiKey Link; ComponentLink2URL: http://digikey.com/product-detail/en/taiyo-yuden/AMK063ABJ105KP-F/587-5050-1-ND/6563893; Device Package: 0201 (0603 Metric); LastUpdated: 9/2/2020 1:00:11 AM; Lifecycle Status: Active; Minimum Order: 1; Mounting Type: Surface Mount, MLCC; Operating Temperature: -55°C ~ 85°C; Package / Case: 0201 (0603 Metric); Packaging: TapeAndReel; PartId: 103; Part Status: Active; Price: 0.02; Series: M; Size / Dimension: 0.024" L x 0.012" W (0.60mm x 0.30mm); Supplier 1: DigiKey; Supplier Part Number 1: 587-5050-1-ND; Temperature Coefficient: X5R; Thickness (Max): 0.014" (0.35mm); Voltage - Rated: 4V
footprint CAP 0201_0603
pins: 1, 2

## AMK063ABJ105MP-F
designator C?, comment 1µF
CAP CER 1UF 4V X5R 0201; Part Number: AMK063ABJ105MP-F; Manufacturer: Taiyo Yuden; Tolerance: ±20%; Value: 1µF; Applications: General Purpose; Capacitance: 1µF; ComponentLink1Description: Datasheet; ComponentLink1URL: http://www.yuden.co.jp/productdata/catalog/mlcc06_e.pdf; ComponentLink2Description: DigiKey Link; ComponentLink2URL: http://digikey.com/product-detail/en/taiyo-yuden/AMK063ABJ105MP-F/587-2989-1-ND/2714182; Device Package: 0201 (0603 Metric); LastUpdated: 9/2/2020 1:00:11 AM; Lifecycle Status: Active; Minimum Order: 1; Mounting Type: Surface Mount, MLCC; Operating Temperature: -55°C ~ 85°C; Package / Case: 0201 (0603 Metric); Packaging: TapeAndReel; PartId: 104; Part Status: Active; Price: 0.02; Series: M; Size / Dimension: 0.024" L x 0.012" W (0.60mm x 0.30mm); Supplier 1: DigiKey; Supplier Part Number 1: 587-2989-1-ND; Temperature Coefficient: X5R; Thickness (Max): 0.013" (0.33mm); Voltage - Rated: 4V
footprint CAP 0201_0603
pins: 1, 2

## AMK063AC6105KP-F
designator C?, comment 1µF
CAP CER 1UF 4V X6S 0201; Part Number: AMK063AC6105KP-F; Manufacturer: Taiyo Yuden; Tolerance: ±10%; Value: 1µF; Applications: General Purpose; Capacitance: 1µF; ComponentLink1Description: Datasheet; ComponentLink1URL: https://www.yuden.co.jp/productdata/catalog/mlcc01_e.pdf; ComponentLink2Description: DigiKey Link; ComponentLink2URL: http://digikey.com/product-detail/en/taiyo-yuden/AMK063AC6105KP-F/587-5051-1-ND/6563894; Device Package: 0201 (0603 Metric); LastUpdated: 9/2/2020 1:00:18 AM; Lifecycle Status: Active; Minimum Order: 1; Mounting Type: Surface Mount, MLCC; Operating Temperature: -55°C ~ 105°C; Package / Case: 0201 (0603 Metric); Packaging: TapeAndReel; PartId: 13; Part Status: Active; Price: 0.02; Series: M; Size / Dimension: 0.024" L x 0.012" W (0.60mm x 0.30mm); Supplier 1: DigiKey; Supplier Part Number 1: 587-5051-1-ND; Temperature Coefficient: X6S; Thickness (Max): 0.014" (0.35mm); Voltage - Rated: 4V
footprint CAP 0201_0603
pins: 1, 2

## AMK063AC6105MP-F
designator C?, comment 1µF
CAP CER 1UF 4V 20% X6S 0201; Part Number: AMK063AC6105MP-F; Manufacturer: Taiyo Yuden; Value: 1µF; Applications: General Purpose; Capacitance: 1µF; ComponentLink1Description: Datasheet; ComponentLink1URL: https://www.yuden.co.jp/productdata/catalog/mlcc01_e.pdf; ComponentLink2Description: DigiKey Link; ComponentLink2URL: http://digikey.com/product-detail/en/taiyo-yuden/AMK063AC6105MP-F/587-5813-1-ND/7674934; Device Package: 0201 (0603 Metric); LastUpdated: 9/2/2020 1:00:18 AM; Lifecycle Status: Active; Minimum Order: 1; Mounting Type: Surface Mount, MLCC; Operating Temperature: -55°C ~ 105°C; Package / Case: 0201 (0603 Metric); Packaging: TapeAndReel; PartId: 10; Part Status: Active; Price: 0.02; Series: M; Size / Dimension: 0.024" L x 0.012" W (0.60mm x 0.30mm); Supplier 1: DigiKey; Supplier Part Number 1: 587-5813-1-ND; Temperature Coefficient: X6S; Thickness (Max): 0.014" (0.35mm); Tolerance: ±20%; Voltage - Rated: 4V
footprint CAP 0201_0603
pins: 1, 2

## AMK063BJ474MP-F
designator C?, comment 0.47µF
CAP CER 0.47UF 4V X5R 0201; Part Number: AMK063BJ474MP-F; Manufacturer: Taiyo Yuden; Tolerance: ±20%; Value: 0.47µF; Applications: General Purpose; Capacitance: 0.47µF; ComponentLink1Description: Datasheet; ComponentLink1URL: https://www.yuden.co.jp/productdata/catalog/mlcc01_e.pdf; ComponentLink2Description: DigiKey Link; ComponentLink2URL: http://digikey.com/product-detail/en/taiyo-yuden/AMK063BJ474MP-F/587-2147-1-ND/1870585; Device Package: 0201 (0603 Metric); LastUpdated: 9/2/2020 12:58:29 AM; Lifecycle Status: Active; Minimum Order: 1; Mounting Type: Surface Mount, MLCC; Operating Temperature: -55°C ~ 85°C; Package / Case: 0201 (0603 Metric); Packaging: TapeAndReel; PartId: 1282; Part Status: Active; Price: 0.06; Series: M; Size / Dimension: 0.024" L x 0.012" W (0.60mm x 0.30mm); Supplier 1: DigiKey; Supplier Part Number 1: 587-2147-1-ND; Temperature Coefficient: X5R; Thickness (Max): 0.015" (0.39mm); Voltage - Rated: 4V
footprint CAP 0201_0603
pins: 1, 2

## AMK063C6474KP-F
designator C?, comment 0.47µF
CAP CER 0.47UF 4V X6S 0201; Part Number: AMK063C6474KP-F; Manufacturer: Taiyo Yuden; Tolerance: ±10%; Value: 0.47µF; Applications: SMPS Filtering; Capacitance: 0.47µF; ComponentLink1Description: Datasheet; ComponentLink1URL: https://ds.yuden.co.jp/TYCOMPAS/ut/detail?pn=AMK063C6474KP-F &u=M; ComponentLink2Description: DigiKey Link; ComponentLink2URL: http://digikey.com/product-detail/en/taiyo-yuden/AMK063C6474KP-F/587-5270-1-ND/7066132; Device Package: 0201 (0603 Metric); LastUpdated: 9/2/2020 12:58:00 AM; Lifecycle Status: Active; Minimum Order: 1; Mounting Type: Surface Mount, MLCC; Operating Temperature: -55°C ~ 105°C; Package / Case: 0201 (0603 Metric); Packaging: TapeAndReel; PartId: 1602; Part Status: Active; Price: 0.02; Series: M; Size / Dimension: 0.024" L x 0.012" W (0.60mm x 0.30mm); Supplier 1: DigiKey; Supplier Part Number 1: 587-5270-1-ND; Temperature Coefficient: X6S; Thickness (Max): 0.013" (0.33mm); Voltage - Rated: 4V
footprint CAP 0201_0603
pins: 1, 2

## AMK063C6474MP-F
designator C?, comment 0.47µF
CAP CER 0.47UF 4V X6S 0201; Part Number: AMK063C6474MP-F; Manufacturer: Taiyo Yuden; Tolerance: ±20%; Value: 0.47µF; Applications: SMPS Filtering; Capacitance: 0.47µF; ComponentLink1Description: Datasheet; ComponentLink1URL: https://ds.yuden.co.jp/TYCOMPAS/ut/detail?pn=AMK063C6474MP-F &u=M; ComponentLink2Description: DigiKey Link; ComponentLink2URL: http://digikey.com/product-detail/en/taiyo-yuden/AMK063C6474MP-F/587-6261-1-ND/9859887; Device Package: 0201 (0603 Metric); LastUpdated: 9/2/2020 12:59:21 AM; Lifecycle Status: Active; Minimum Order: 1; Mounting Type: Surface Mount, MLCC; Operating Temperature: -55°C ~ 105°C; Package / Case: 0201 (0603 Metric); Packaging: TapeAndReel; PartId: 677; Part Status: Active; Price: 0.01; Series: M; Size / Dimension: 0.024" L x 0.012" W (0.60mm x 0.30mm); Supplier 1: DigiKey; Supplier Part Number 1: 587-6261-1-ND; Temperature Coefficient: X6S; Thickness (Max): 0.013" (0.33mm); Voltage - Rated: 4V
footprint CAP 0201_0603
pins: 1, 2

## C0201C100D3GACTU
designator C?, comment 10pF
CAP CER 10PF 25V C0G/NP0 0201; Part Number: C0201C100D3GACTU; Manufacturer: KEMET; Temperature Coefficient: C0G, NP0; Tolerance: ±0.5pF; Value: 10pF; Applications: General Purpose; Capacitance: 10pF; ComponentLink1Description: Datasheet; ComponentLink1URL: https://api.kemet.com/component-edge/download/datasheet/C0201C100D3GACTU.pdf; ComponentLink2Description: DigiKey Link; ComponentLink2URL: http://digikey.com/product-detail/en/kemet/C0201C100D3GACTU/399-8924-1-ND/3522441; Device Package: 0201 (0603 Metric); Features: Low ESL; LastUpdated: 9/2/2020 12:58:18 AM; Lifecycle Status: Active; Minimum Order: 1; Mounting Type: Surface Mount, MLCC; Operating Temperature: -55°C ~ 125°C; Package / Case: 0201 (0603 Metric); Packaging: CutTape; PartId: 1401; Part Status: Active; Price: 0.10; Series: SMD Comm C0G; Size / Dimension: 0.024" L x 0.012" W (0.60mm x 0.30mm); Supplier 1: DigiKey; Supplier Part Number 1: 399-8924-1-ND; Thickness (Max): 0.013" (0.33mm); Voltage - Rated: 25V
footprint CAP 0201_0603
pins: 1, 2

## C0201C100J3GAC7867
designator C?, comment 10pF
CAP CER 10PF 25V C0G/NP0 0201; Part Number: C0201C100J3GAC7867; Manufacturer: KEMET; Temperature Coefficient: C0G, NP0; Tolerance: ±5%; Value: 10pF; Applications: General Purpose; Capacitance: 10pF; ComponentLink1Description: Datasheet; ComponentLink1URL: https://api.kemet.com/component-edge/download/datasheet/C0201C100J3GAC7867.pdf; ComponentLink2Description: DigiKey Link; ComponentLink2URL: http://digikey.com/product-detail/en/kemet/C0201C100J3GAC7867/399-14856-1-ND/7382405; Device Package: 0201 (0603 Metric); Features: Low ESL; LastUpdated: 9/2/2020 1:00:19 AM; Lifecycle Status: Active; Minimum Order: 1; Mounting Type: Surface Mount, MLCC; Operating Temperature: -55°C ~ 125°C; Package / Case: 0201 (0603 Metric); Packaging: TapeAndReel; PartId: 4; Part Status: Active; Price: 0.02; Series: SMD Comm C0G; Size / Dimension: 0.024" L x 0.012" W (0.60mm x 0.30mm); Supplier 1: DigiKey; Supplier Part Number 1: 399-14856-1-ND; Thickness (Max): 0.013" (0.33mm); Voltage - Rated: 25V
footprint CAP 0201_0603
pins: 1, 2

## C0201C100K8GAC7867
designator C?, comment 10pF
CAP CER SMD 0201 10PF 10% COG 10; Part Number: C0201C100K8GAC7867; Manufacturer: KEMET; Temperature Coefficient: C0G, NP0; Voltage - Rated: 10V; Value: 10pF; Applications: General Purpose; Capacitance: 10pF; ComponentLink1Description: Datasheet; ComponentLink1URL: https://api.kemet.com/component-edge/download/datasheet/C0201C100K8GAC7867.pdf; ComponentLink2Description: DigiKey Link; ComponentLink2URL: http://digikey.com/product-detail/en/kemet/C0201C100K8GAC7867/399-17541-1-ND/8572541; Device Package: 0201 (0603 Metric); Features: Low ESL; LastUpdated: 9/2/2020 12:59:08 AM; Lifecycle Status: Active; Minimum Order: 1; Mounting Type: Surface Mount, MLCC; Operating Temperature: -55°C ~ 125°C; Package / Case: 0201 (0603 Metric); Packaging: TapeAndReel; PartId: 833; Part Status: Active; Price: 0.03; Series: SMD Comm C0G; Size / Dimension: 0.024" L x 0.012" W (0.60mm x 0.30mm); Supplier 1: DigiKey; Supplier Part Number 1: 399-17541-1-ND; Thickness (Max): 0.013" (0.33mm); Tolerance: ±10%
footprint CAP 0201_0603
pins: 1, 2

## C0201C101J3GACTU
designator C?, comment 100pF
CAP CER 100PF 25V C0G/NP0 0201; Part Number: C0201C101J3GACTU; Manufacturer: KEMET; Temperature Coefficient: C0G, NP0; Tolerance: ±5%; Value: 100pF; Applications: General Purpose; Capacitance: 100pF; ComponentLink1Description: Datasheet; ComponentLink1URL: https://api.kemet.com/component-edge/download/datasheet/C0201C101J3GACTU.pdf; ComponentLink2Description: DigiKey Link; ComponentLink2URL: http://digikey.com/product-detail/en/kemet/C0201C101J3GACTU/399-8925-1-ND/3522442; Device Package: 0201 (0603 Metric); Features: Low ESL; LastUpdated: 9/2/2020 12:57:55 AM; Lifecycle Status: Active; Minimum Order: 1; Mounting Type: Surface Mount, MLCC; Operating Temperature: -55°C ~ 125°C; Package / Case: 0201 (0603 Metric); Packaging: TapeAndReel; PartId: 1658; Part Status: Active; Price: 0.01; Series: SMD Comm C0G; Size / Dimension: 0.024" L x 0.012" W (0.60mm x 0.30mm); Supplier 1: DigiKey; Supplier Part Number 1: 399-8925-1-ND; Thickness (Max): 0.013" (0.33mm); Voltage - Rated: 25V
footprint CAP 0201_0603
pins: 1, 2

## C0201C101J4GAC7867
designator C?, comment 100pF
CAP CER 100PF 16V C0G/NP0 0201; Part Number: C0201C101J4GAC7867; Manufacturer: KEMET; Temperature Coefficient: C0G, NP0; Tolerance: ±5%; Value: 100pF; Applications: General Purpose; Capacitance: 100pF; ComponentLink1Description: Datasheet; ComponentLink1URL: https://api.kemet.com/component-edge/download/datasheet/C0201C101J4GAC7867.pdf; ComponentLink2Description: DigiKey Link; ComponentLink2URL: http://digikey.com/product-detail/en/kemet/C0201C101J4GAC7867/399-14857-1-ND/7382406; Device Package: 0201 (0603 Metric); Features: Low ESL; LastUpdated: 9/2/2020 12:58:11 AM; Lifecycle Status: Active; Minimum Order: 1; Mounting Type: Surface Mount, MLCC; Operating Temperature: -55°C ~ 125°C; Package / Case: 0201 (0603 Metric); Packaging: TapeAndReel; PartId: 1478; Part Status: Active; Price: 0.03; Series: SMD Comm C0G; Size / Dimension: 0.024" L x 0.012" W (0.60mm x 0.30mm); Supplier 1: DigiKey; Supplier Part Number 1: 399-14857-1-ND; Thickness (Max): 0.013" (0.33mm); Voltage - Rated: 16V
footprint CAP 0201_0603
pins: 1, 2